# EAGLE library part FDS4435BZ (library SamacSys_Parts)
FDS4435BZ, P-channel MOSFET Transistor 8.8 A 30 V, 8-Pin SOIC Source: Datasheet <https://www.googleadservices.com/pagead/aclk?sa=L&ai=DChcSEwiQ1IPVj47sAhUCntUKHY_LCnQYABAAGgJ3cw&ohost=www.google.com&cid=CAASEuRoco0Izs4fMXzZlQAkAisU9g&sig=AOD64_0q9ZSzl9B4LYZShBNrwAYTvmkutA&q&adurl&ved=2ahUKEwiH6_zUj47sAhXlx4UKHYGNAW8Q0Qx6BAgGEAE>
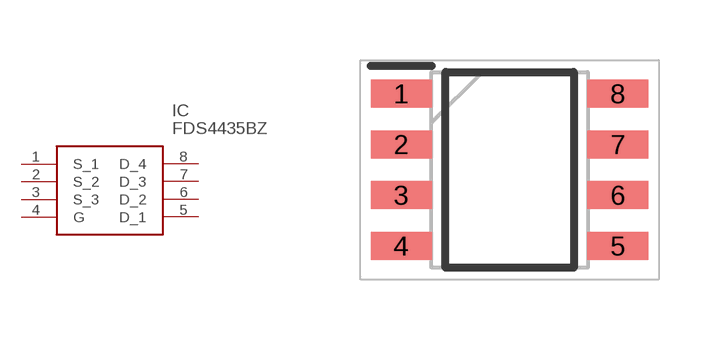
[diagram p23: symbol with the pads of SOIC127P600X175-8N; footprint SOIC127P600X175-8N]

Designator prefix IC

## FDS4435BZ (DESCRIPTION: FDS4435BZ, P-channel MOSFET Transistor 8.8 A 30 V, 8-Pin SOIC; HEIGHT: 1.75mm; MANUFACTURER_NAME: ON Semiconductor; MANUFACTURER_PART_NUMBER: FDS4435BZ; MOUSER_PART_NUMBER: 512-FDS4435BZ; MOUSER_PRICE-STOCK: https://www.mouser.co.uk/ProductDetail/ON-Semiconductor-Fairchild/FDS4435BZ?qs=GXuM9q1TrDl7P7R1rhmrgw%3D%3D)  [SOIC127P600X175-8N]
1  S_1
2  S_2
3  S_3
4  G
5  D_1
6  D_2
7  D_3
8  D_4

## Footprint SOIC127P600X175-8N (pad centres in mm)
SOIC8 CASE 751EB_
smd 1.525 x 0.7: 1 -2.712,1.905; 2 -2.712,0.635; 3 -2.712,-0.635; 4 -2.712,-1.905; 5 2.712,-1.905; 6 2.712,-0.635; 7 2.712,0.635; 8 2.712,1.905